# EAGLE library part SN74HC164DR (library ruark2)
Shift Shift Register 1 Element 8 Bit 14-SOIC
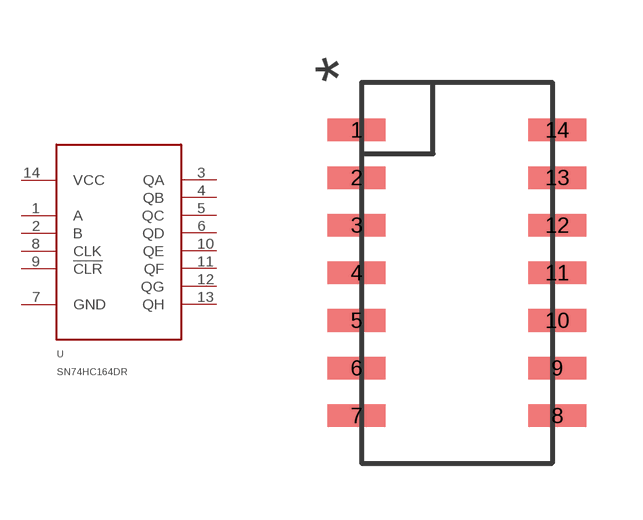
[diagram p118: symbol with the pads of SOIC-14; footprint SOIC-14]

Designator prefix U

## SN74HC164DR (PARTNO: 296-14838-1-ND)  [SOIC-14]
1  A
2  B
3  QA
4  QB
5  QC
6  QD
7  GND
8  CLK
9  !CLR
10  QE
11  QF
12  QG
13  QH
14  VCC

## Footprint SOIC-14 (pad centres in mm)
smd 1.55 x 0.6: 1 -2.675,3.81; 2 -2.675,2.54; 3 -2.675,1.27; 4 -2.675,0; 5 -2.675,-1.27; 6 -2.675,-2.54; 7 -2.675,-3.81; 8 2.675,-3.81; 9 2.675,-2.54; 10 2.675,-1.27; 11 2.675,0; 12 2.675,1.27; 13 2.675,2.54; 14 2.675,3.81